# Altium schematic symbol library TLP7830TP4,E.SchLib: 2 symbols
Pins are listed as number, name and electrical type; pins without a type are passive.

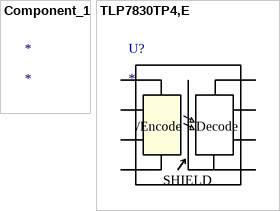
[diagram p0: symbols Component_1 to TLP7830TP4,E]

## Component_1
designator *

## TLP7830TP4,E
designator U?
IC MODULATOR 16BIT; Mfr_Name: Toshiba Electronic Devices & Storage Corp.; Source_Package: TLP7830; Number_devices_in_Package: 1; RefDes: Refdes; Type: Type
footprint SO8L_TOS
pins: 1, 2, 3, 4, 5, 6, 7, 8
text: /Encode; Decode; SHIELD